# Altium schematic symbol library CarlLibrary.SchLib: 52 symbols
Pins are listed as number, name and electrical type; pins without a type are passive.

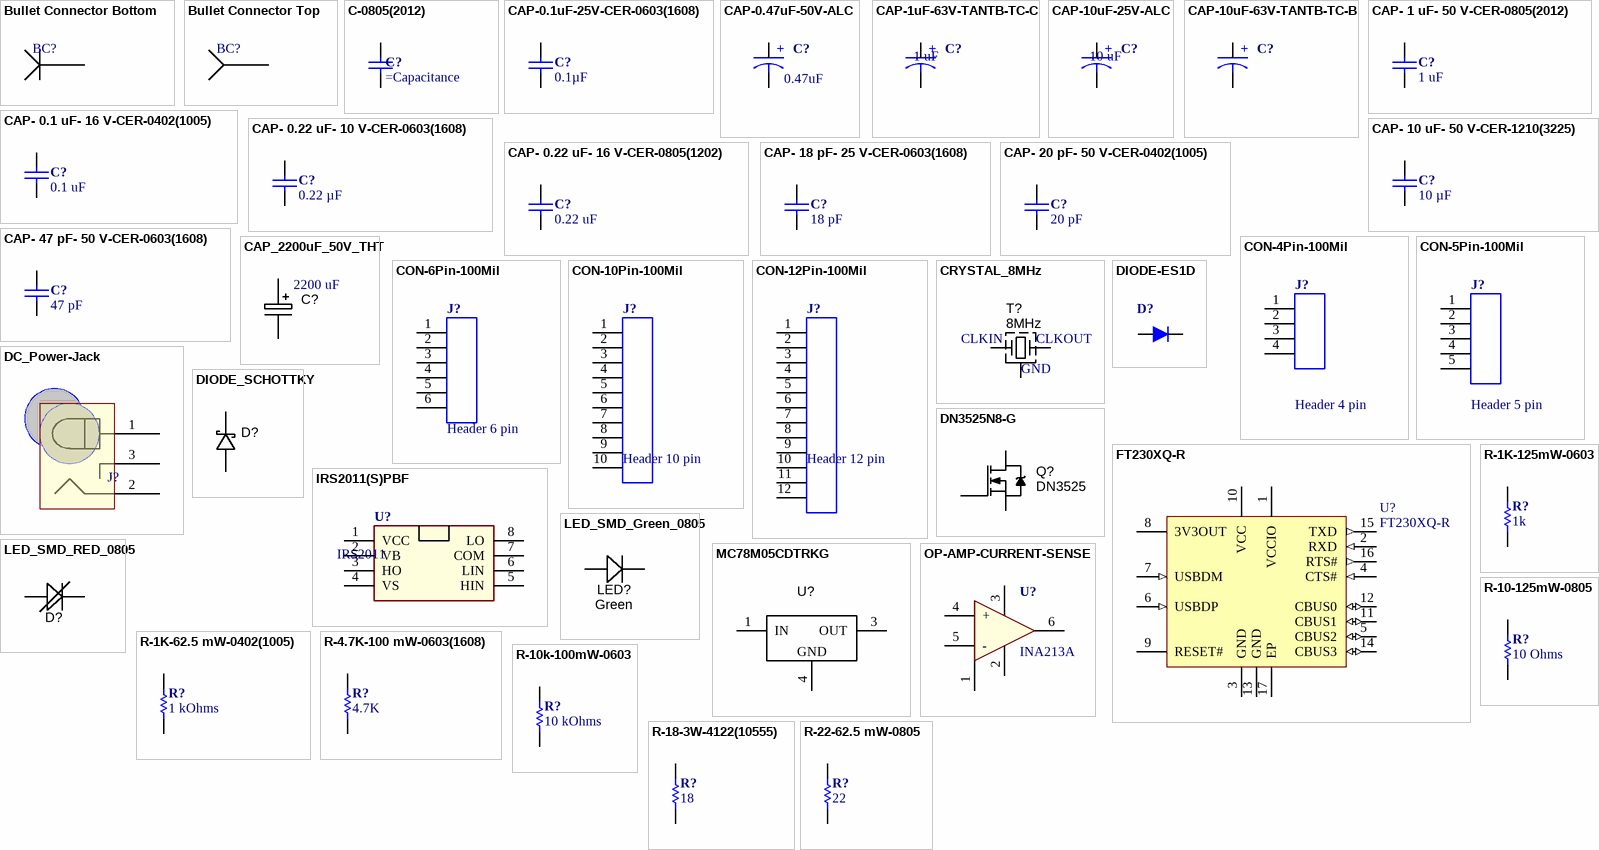
[diagram p0: symbols Bullet Connector Bottom to R-22-62.5 mW-0805]

## Bullet Connector Bottom
designator BC?
SMD BULLET CONNECTOR
footprint BULLET_CONNECTOR_BOTTOM
pins: 1

## Bullet Connector Top
designator BC?
SMD BULLET CONNECTOR
footprint BULLET_CONNECTOR_TOP (TOP_SIDE_BULLET)
pins: 1

## C-0805(2012)
designator C?
___ OHM ___ mW 0805(2012) SMD
footprint CAP-0805(2012)-R (Capacitor 0805(2012) Reflow)
pins: 1, 2

## CAP-0.1uF-25V-CER-0603(1608)
designator C?, comment 0.1µF
CAP CER 0.1UF 25V 20% X7R 0603; MANUFACTURER: YAGEO; PART #: CC0603JRX7R8BB104; Tolerance: ±10%; RoHS: RoHS Compliant; Category: Capacitors; Capacitance: 0.1µF; Voltage - Rated: 25V; Temperature Coefficient: X7R; Mounting Type: Surface Mount, MLCC; Applications: General Purpose; Package / Case: 0603 (1608 Metric); Size / Dimension: 0.063" L x 0.031" W (1.60mm x 0.80mm); Thickness (Max): 0.035" (0.90mm)
footprint CAP-0603(1608)-R (Capacitor 0603(1608) Reflow)
pins: 1, 2

## CAP-0.47uF-50V-ALC
designator C?, comment value 0.47uF  (hidden comment: UMT1HR47MDD)
CAP, 0.47uF, 50V, ALC, 20%, 3.8mA; ARMA_PN: UMT1HR47MDD
pins: 1 POSITIVE, 2 NEGATIVE
text: +

## CAP-1uF-63V-TANTB-TC-C
designator C?, comment 1 uF
CAP, 1uF, 63V, TANT-B; Manufacturer: AVX; Manufacturer Part Number: TCJC105M063R0300; Mfr Case Code: C Case; Tolerance: 20 %; Type: Tantalum Solid Electrolytic Chip Capacitors  with Conductive Polymer Electrode; Voltage Rating: 63 VDC; ESR: 300 mOhms; Leakage Current: 3.6 uA; Dissipation Factor DF: 6; Supplier 1: Mouser; RoHS: RoHS Compliant; Category: Tantalum Capacitors - Polymer SMD; Stock 1: 984; Pricing 1: 1=1.71, 10=1.41, 100=0.826, 500=0.585, 1000=0.516, 2500=0.465, 10000=0.439, 25000=0.430 (USD); Capacitance: 1 uF; Diameter: -; Height: 2.8 mm; Length: 6 mm; Operating Temperature Range: - 55 C to + 125 C; Package / Case: 2312 (6032 metric); Packaging: Reel; Product: Tantalum Organic Polymer Standard Grade; Series: TCJ; Termination Style: SMD/SMT; Voltage Rating AC: -; Voltage Rating DC: 63 VDC; Width: 3.2 mm; Brand: AVX; Case Code - in: 2312; Case Code - mm: 6032; Maximum Operating Temperature: + 125 C; Minimum Operating Temperature: - 55 C; Product Category: Tantalum Solid Electrolytic Chip Capacitors w Conductive Polymer Electrode; Standard Pack Qty: 500; RoHS - Mouser: Y; Minimum Order Quantity: 1; Reeling: True; ComponentLink1URL: http://www.mouser.com/ds/2/40/tcj-776064.pdf; ComponentLink1Description: http://www.mouser.com/ds/2/40/tcj-776064.pdf; Supplier Part Number 1: 581-TCJC105M063R0300
footprint CAPMP6032X280N (Capacitor, polarized, Molded Body, EIA 535BAAC size C; 6.00mm L X 3.20mm W X 2.80mm H)
pins: 1 POSITIVE, 2 NEGATIVE
text: +

## CAP-10uF-25V-ALC
designator C?, comment 10 uF
CAP, 10uF, 25V, ALC, 20%; Manufacturer: Vishay / Sprague; Manufacturer Part Number: 515D106M025JA6AE3; Voltage Rating DC: 25 VDC; Life: 2000 Hour; Ripple Current: 33 mA; Supplier 1: Mouser; RoHS: RoHS Compliant; Category: Aluminum Electrolytic Capacitors - Leaded; Stock 1: 5463; Pricing 1: 1=0.140, 25=0.137, 100=0.131, 250=0.117, 500=0.102, 1000=0.090, 2000=0.072, 5000=0.071, 10000=0.065 (USD); Capacitance: 10 uF; Diameter: 5 mm; Length: 11 mm; Packaging: Bulk; Product: General Purpose Electrolytic Capacitors; Series: 515D; Termination Style: Radial; Tolerance: 20 %; Brand: Vishay / Sprague; Lead Spacing: 2 mm; Maximum Operating Temperature: + 85 C; Product Category: Radial Aluminum Electrolytic Capacitors - 85 Degree; Standard Pack Qty: 200; RoHS - Mouser: Y; Minimum Order Quantity: 1; Reeling: False; ComponentLink1URL: http://www.mouser.com/ds/2/427/515d-239733.pdf; ComponentLink1Description: http://www.mouser.com/ds/2/427/515d-239733.pdf; Supplier Part Number 1: 75-515D106M025JA6AE3
footprint CAPE5.0mm
pins: 1 POSITIVE, 2 NEGATIVE
text: +

## CAP-10uF-63V-TANTB-TC-B
designator C?
CAP TANT, 10uF, 16V, TANT-B; Manufacturer: Vishay / Sprague; Manufacturer Part Number: TP3B106K016C0800AS; Mfr Case Code: B Case; Tolerance: 10 %; ESR: 800 mOhms; Leakage Current: 1.6 uA; Dissipation Factor DF: 6; Ripple Current: 0.33 A; Supplier 1: Mouser; RoHS: RoHS Compliant; Category: Tantalum Capacitors - Solid SMD; Stock 1: 2285; Pricing 1: 1=0.420, 10=0.340, 50=0.268, 100=0.237, 500=0.220, 2000=0.193, 4000=0.180, 10000=0.167, 20000=0.156 (USD); Capacitance: 10 uF; Height: 2.1 mm; Length: 3.5 mm; Operating Temperature Range: - 55 C to + 125 C; Package / Case: 1411 (3528 metric); Packaging: Reel; Product: Tantalum Solid Surface Mounts; Series: TP3; Termination Style: SMD/SMT; Voltage Rating: 16 V; Width: 2.8 mm; Brand: Vishay / Sprague; Case Code - in: 1411; Case Code - mm: 3528; Product Category: Low ESR Solid Tantalum Chip Capacitors; Tradename: TANTAMOUNT; RoHS - Mouser: Y; Minimum Order Quantity: 1; Reeling: True; ComponentLink1URL: http://www.mouser.com/ds/2/427/tp3-240030.pdf; ComponentLink1Description: http://www.mouser.com/ds/2/427/tp3-240030.pdf; Supplier Part Number 1: 74-TP3B106K016C0800A
footprint CAPMP3528X210N (Molded body capacitor, Body 3.5x2.8mm, 1210, IPC Nominal settings)
pins: 1 POSITIVE, 2 NEGATIVE
text: +

## CAP- 0.1 uF- 16 V-CER-0402(1005)
designator C?, comment 0.1 uF
CAP CER 0.1 UF 16V 5% X7R 0402; Manufacturer: Yageo; Manufacturer Part Number: CC0402KRX7R7BB104; Tolerance: 10 %; Type: Multilayer Ceramic Chip Capacitor; Voltage Rating DC: 16 VDC; Supplier 1: Mouser; RoHS: RoHS Compliant By Exemption; Category: Multilayer Ceramic Capacitors MLCC - SMD/SMT; Stock 1: 655262; Pricing 1: 1=0.100, 10=0.009, 100=0.004, 1000=0.003, 2500=0.002, 10000=0.002 (USD); Capacitance: 0.1 uF; Package / Case: 0402 (1005 metric); Packaging: Reel; Product: General Type MLCCs; Termination Style: SMD/SMT; Brand: Yageo; Case Code - in: 0402; Case Code - mm: 1005; Dielectric: X7R; Maximum Operating Temperature: + 125 C; Minimum Operating Temperature: - 55 C; Standard Pack Qty: 10000; RoHS - Mouser: E; Minimum Order Quantity: 1; Reeling: True; ComponentLink1URL: http://www.mouser.com/ds/2/447/UPY-GPHC_X7R_6.3V-to-50V_8-12304.pdf; ComponentLink1Description: http://www.mouser.com/ds/2/447/UPY-GPHC_X7R_6.3V-to-50V_8-12304.pdf; Supplier Part Number 1: 603-CC402KRX7R7BB104
footprint CAP-0402(1005)-R (Capacitor 0402 Reflow)
pins: 1, 2

## CAP- 0.22 uF- 10 V-CER-0603(1608)
designator C?, comment 0.22 µF
CAP CER 0.22 UF 10V 5% X7R 0603; MANUFACTURER: YAGEO; PART #:: CC0603KRX7R6BB224; Voltage - Rated: V; Tolerance: ±%; RoHS: RoHS Compliant; Category: Capacitors; Capacitance: 0.22 µF; Mounting Type: Surface Mount, MLCC; Applications: General Purpose; Package / Case: 0603 (1608 Metric); Size / Dimension: 0.063" L x 0.031" W (1.60mm x 0.80mm); Thickness (Max): 0.035" (0.90mm)
footprint CAP-0603(1608)-R (Capacitor 0603(1608) Reflow)
pins: 1, 2

## CAP- 0.22 uF- 16 V-CER-0805(1202)
designator C?, comment 0.22 uF
CAP CER 0.22 UF 16V 10% X7R 0805(2012); Manufacturer: Yageo; Manufacturer Part Number: CC0805KRX7R7BB224; Type: Multilayer Ceramic Chip Capacitor; Voltage Rating DC: 16 VDC; Capacitance - nF: 220 nF; Capacitance - pF: 220000 pF; Supplier 1: Mouser; RoHS: RoHS Compliant By Exemption; Category: Multilayer Ceramic Capacitors MLCC - SMD/SMT; Stock 1: 9302; Pricing 1: 1=0.100, 10=0.088, 100=0.039, 1000=0.032, 4000=0.023, 8000=0.022, 24000=0.021, 48000=0.019, 100000=0.016 (USD); Capacitance: 0.22 uF; Length: 2 mm; Package / Case: 0805 (2012 metric); Packaging: Reel; Product: General Type MLCCs; Termination Style: SMD/SMT; Tolerance: 10 %; Width: 1.25 mm; Brand: Yageo; Case Code - in: 0805; Case Code - mm: 2012; Dielectric: X7R; Maximum Operating Temperature: + 125 C; Minimum Operating Temperature: - 55 C; Standard Pack Qty: 4000; RoHS - Mouser: E; Minimum Order Quantity: 1; Reeling: True; ComponentLink1URL: http://www.mouser.com/ds/2/447/Yageo_486313-494411.pdf; ComponentLink1Description: http://www.mouser.com/ds/2/447/Yageo_486313-494411.pdf; Supplier Part Number 1: 603-CC805KRX7R7BB224
footprint CAP-0805(2012)-R (Capacitor 0805(2012) Reflow)
pins: 1, 2

## CAP- 1 uF- 50 V-CER-0805(2012)
designator C?, comment 1 uF
CAP CER 1 UF 50V 10% Y5V 0805; Manufacturer: Yageo; Manufacturer Part Number: CC0805KKX7R8BB105; Type: Multilayer Ceramic Chip Capacitor; Voltage Rating DC: 25 VDC; Dielectric: X7R; Supplier 1: Mouser; RoHS: RoHS Compliant By Exemption; Category: Multilayer Ceramic Capacitors MLCC - SMD/SMT; Stock 1: 45582; Pricing 1: 1=0.120, 10=0.062, 100=0.028, 1000=0.022, 3000=0.017, 9000=0.015, 24000=0.014, 45000=0.013, 99000=0.010 (USD); Capacitance: 1 uF; Height: 1.25 mm; Length: 2 mm; Package / Case: 0805 (2012 metric); Packaging: Reel; Product: General Type MLCCs; Series: CC; Termination Style: SMD/SMT; Tolerance: 10 %; Width: 1.25 mm; Brand: Yageo; Case Code - in: 0805; Case Code - mm: 2012; Maximum Operating Temperature: + 125 C; Minimum Operating Temperature: - 55 C; RoHS - Mouser: E; Minimum Order Quantity: 1; Reeling: True; ComponentLink1URL: http://www.mouser.com/ds/2/447/UPY-GP_NP0_16V-to-50V_8-3714.pdf; ComponentLink1Description: http://www.mouser.com/ds/2/447/UPY-GP_NP0_16V-to-50V_8-3714.pdf; Supplier Part Number 1: 603-CC805KKX7R8BB105
footprint CAP-0805(2012)-R (Capacitor 0805(2012) Reflow)
pins: 1, 2

## CAP- 10 uF- 50 V-CER-1210(3225)
designator C?, comment 10 µF
CAP CER 10 UF 50V 10% X5R 1210; Voltage - Rated: V; Tolerance: ±%; RoHS: RoHS Compliant; Category: Capacitors; Capacitance: 10 µF; Mounting Type: Surface Mount, MLCC; Applications: General Purpose; Package / Case: 0603 (1608 Metric); Size / Dimension: 0.063" L x 0.031" W (1.60mm x 0.80mm); Thickness (Max): 0.035" (0.90mm)
footprint CAP-1210(3225)-R (Capacitor 1210(3225) Reflow)
pins: 1, 2

## CAP- 18 pF- 25 V-CER-0603(1608)
designator C?, comment 18 pF
CAP CER 18 pF 10V 5% C0G 0603; Manufacturer: Yageo; Manufacturer Part Number: CC0603FRNPO9BN180; Tolerance: 1 %; Type: Multilayer Ceramic Chip Capacitor; Voltage Rating DC: 50 VDC; Dielectric: C0G (NP0); Supplier 1: Mouser; RoHS: RoHS Compliant By Exemption; Category: Multilayer Ceramic Capacitors MLCC - SMD/SMT; Stock 1: 2511; Pricing 1: 1=0.100, 10=0.039, 100=0.027, 1000=0.019, 4000=0.018, 8000=0.017, 24000=0.016, 48000=0.013 (USD); Capacitance: 18 pF; Length: 1.6 mm; Package / Case: 0603 (1608 metric); Packaging: Reel; Product: General Type MLCCs; Termination Style: SMD/SMT; Width: 0.8 mm; Brand: Yageo; Case Code - in: 0603; Case Code - mm: 1608; Maximum Operating Temperature: + 125 C; Minimum Operating Temperature: - 55 C; RoHS - Mouser: E; Minimum Order Quantity: 1; Reeling: True; ComponentLink1URL: http://www.mouser.com/ds/2/447/UPY-GP_NP0_16V-to-50V_8-3714.pdf; ComponentLink1Description: http://www.mouser.com/ds/2/447/UPY-GP_NP0_16V-to-50V_8-3714.pdf; Supplier Part Number 1: 603-CC603FRNPO9BN180
footprint CAP-0603(1608)-R (Capacitor 0603(1608) Reflow)
pins: 1, 2

## CAP- 20 pF- 50 V-CER-0402(1005)
designator C?, comment 20 pF
CAP CER 20 pF 50V 5% C0G 0402; Manufacturer: Yageo; Manufacturer Part Number: CC0402JRNPO9BN200; Type: Multilayer Ceramic Chip Capacitor; Voltage Rating DC: 50 VDC; Dielectric: C0G (NP0); Supplier 1: Mouser; RoHS: RoHS Compliant By Exemption; Category: Multilayer Ceramic Capacitors MLCC - SMD/SMT; Stock 1: 75922; Pricing 1: 1=0.100, 10=0.010, 100=0.005, 1000=0.004, 2500=0.003, 10000=0.002 (USD); Capacitance: 20 pF; Length: 1 mm; Package / Case: 0402 (1005 metric); Packaging: Reel; Product: General Type MLCCs; Termination Style: SMD/SMT; Tolerance: 5 %; Width: 0.5 mm; Brand: Yageo; Case Code - in: 0402; Case Code - mm: 1005; Maximum Operating Temperature: + 125 C; Minimum Operating Temperature: - 55 C; Standard Pack Qty: 10000; RoHS - Mouser: E; Minimum Order Quantity: 1; Reeling: True; ComponentLink1URL: http://www.mouser.com/ds/2/447/UPY-NP0X7R_MV_100-to-630V_15-594030.pdf; ComponentLink1Description: http://www.mouser.com/ds/2/447/UPY-NP0X7R_MV_100-to-630V_15-594030.pdf; Supplier Part Number 1: 603-CC402JRNPO9BN200
footprint CAP-0402(1005)-R (Capacitor 0402 Reflow)
pins: 1, 2

## CAP- 47 pF- 50 V-CER-0603(1608)
designator C?, comment 47 pF
CAP CER 47 pF 50V 5% C0G 0603; Manufacturer: Yageo; Manufacturer Part Number: CC0603JRNPO9BN470; Type: Multilayer Ceramic Chip Capacitor; Voltage Rating DC: 50 VDC; Dielectric: C0G (NP0); Supplier 1: Mouser; RoHS: RoHS Compliant; Category: Multilayer Ceramic Capacitors MLCC - SMD/SMT; Stock 1: 0; Pricing 1: 1=0.100, 10=0.021, 100=0.009, 1000=0.007, 4000=0.005, 48000=0.004, 100000=0.003 (USD); Capacitance: 47 pF; Length: 1.6 mm; Package / Case: 0603 (1608 metric); Packaging: Reel; Product: General Type MLCCs; Termination Style: SMD/SMT; Tolerance: 5 %; Width: 0.8 mm; Brand: Yageo; Case Code - in: 0603; Case Code - mm: 1608; Maximum Operating Temperature: + 125 C; Minimum Operating Temperature: - 55 C; Standard Pack Qty: 4000; RoHS - Mouser: E; Minimum Order Quantity: 1; Reeling: True; ComponentLink1URL: http://www.mouser.com/ds/2/447/UPY-GP_NP0_16V-to-50V_8-3714.pdf; ComponentLink1Description: http://www.mouser.com/ds/2/447/UPY-GP_NP0_16V-to-50V_8-3714.pdf; Supplier Part Number 1: 603-CC603JRNPO9BN470
footprint CAP-0603(1608)-R (Capacitor 0603(1608) Reflow)
pins: 1, 2

## CAP_2200uF_50V_THT
designator C?
Capacitor THT Alum Elec 2200uF 20% 50V; Manufacturer 1: NICHICON; Manufacturer Part Number 1: UVK1H222MHD; Ratings: 50V; 105°C; Material: Al Electrolytic; Package / Case: Radial; Tolerance: ±20%
footprint 2200uF_Rad_18x25mm (10mm Pitch Radial Capacitor)
pins: 1, 2
text: 2200 uF

## CON-4Pin-100Mil
designator J?, comment Header 4 pin
Header, 4 pin, .1 pitch; Manufacturer: Molex; Manufacturer Part Number: 90136-1104; Current Rating: 3 A; Mounting Angle: Vertical; Number of Positions: 4 Position; Voltage Rating: 350 VAC/DC; Pitch: 2.54 mm; Qualification: Commercial; Supplier 1: Mouser; RoHS: RoHS Compliant; Category: Headers & Wire Housings; Stock 1: 2253; Pricing 1: 1=1.17, 10=0.906, 100=0.717, 500=0.646, 1000=0.574, 2000=0.502 (USD); Accessory Type: -; Contact Plating: Tin; Contact Type: -; Housing Material: Polyester; Number of Rows: 1 Row; Packaging: Tray; Product: Headers; Series: 90136; Termination Style: Through Hole; Type: Shrouded; Brand: Molex; Contact Material: Brass; Mounting Style: Straight Pin; Row Spacing: -; Contact Gender: Pin (Male); Product Category: C-Grid Connectors; Standard Pack Qty: 1920; Tradename: C-Grid; RoHS - Mouser: Y; Minimum Order Quantity: 1; Reeling: False; ComponentLink1URL: http://www.mouser.com/ds/2/276/0901361104_PCB_HEADERS-176953.pdf; ComponentLink1Description: http://www.mouser.com/ds/2/276/0901361104_PCB_HEADERS-176953.pdf; Supplier Part Number 1: 538-90136-1104
footprint HEADER-4-100mil (100 mil spacing)
pins: 1, 2, 3, 4

## CON-5Pin-100Mil
designator J?, comment Header 5 pin
Header, 5 pin, .1 pitch; Manufacturer: Molex; Manufacturer Part Number: 90136-1105; Current Rating: 3 A; Mounting Angle: Vertical; Number of Positions: 5 Position; Voltage Rating: 350 VAC/DC; Pitch: 2.54 mm; Qualification: Commercial; Supplier 1: Mouser; RoHS: RoHS Compliant; Category: Headers & Wire Housings; Stock 1: 2202; Pricing 1: 1=1.17, 10=0.934, 100=0.749, 500=0.675, 1000=0.600, 2000=0.544, 5000=0.525, 10000=0.461 (USD); Accessory Type: -; Contact Plating: Tin; Contact Type: -; Housing Material: Polyester; Number of Rows: 1 Row; Packaging: Tray; Product: Headers; Series: 90136; Termination Style: Through Hole; Type: Shrouded; Brand: Molex; Contact Material: Brass; Mounting Style: Through Hole; Row Spacing: -; Contact Gender: Pin (Male); Product Category: C-Grid Connectors; Standard Pack Qty: 1600; Tradename: C-Grid; RoHS - Mouser: Y; Minimum Order Quantity: 1; Reeling: False; ComponentLink1URL: http://www.mouser.com/ds/2/276/0901361105_PCB_HEADERS-151780.pdf; ComponentLink1Description: http://www.mouser.com/ds/2/276/0901361105_PCB_HEADERS-151780.pdf; Supplier Part Number 1: 538-90136-1105
footprint HEADER-5-100mil (100 mil spacing)
pins: 1, 2, 3, 4, 5

## CON-6Pin-100Mil
designator J?, comment Header 6 pin
Header, 6 pin, .1 pitch; Manufacturer: TE Connectivity / AMP; Manufacturer Part Number: 4-103327-6; Current Rating: 3 A; Mounting Angle: Vertical; Number of Positions: 6 Position; Pitch: 2.54 mm; Insulation Resistance: 5000 MOhms; Mating Post Length: 5.84 mm; Supplier 1: Mouser; Category: Headers & Wire Housings; Stock 1: 9402; Pricing 1: 1=0.230, 25=0.226, 50=0.212, 100=0.198 (USD); Contact Plating: Tin; Housing Material: Thermoplastic; Number of Rows: 1 Row; Operating Temperature Range: - 65 C to + 105 C; Product: Headers; Series: AMPMODU MOD II; Termination Style: Through Hole; Type: Breakaway; Brand: TE Connectivity / AMP; Contact Material: Phosphor Bronze; Flammability Rating: UL 94 V-0; Mounting Style: -; Row Spacing: 2.54 mm; Contact Gender: Pin (Male); Standard Pack Qty: 240; Termination Post Length: 3.05 mm; Tradename: AMPMODU; Minimum Order Quantity: 1; Reeling: False; ComponentLink1URL: http://www.mouser.com/ds/2/418/NG_CD_103327_T_baseFilename-749374.pdf; ComponentLink1Description: http://www.mouser.com/ds/2/418/NG_CD_103327_T_baseFilename-749374.pdf; Supplier Part Number 1: 571-4-103327-6
footprint HEADER-6-100mil (100 mil spacing)
pins: 1, 2, 3, 4, 5, 6

## CON-10Pin-100Mil
designator J?, comment Header 10 pin
Header, 10pin, .1 pitch; Manufacturer: Molex; Manufacturer Part Number: 90136-1110; Current Rating: 3 A; Mounting Angle: Vertical; Number of Positions: 10 Position; Voltage Rating: 350 VAC/DC; Pitch: 2.54 mm; Latching Type: Latched; Supplier 1: Mouser; RoHS: RoHS Compliant; Category: Headers & Wire Housings; Stock 1: 29; Pricing 1: 1=1.23, 10=1.12, 100=0.916, 500=0.802, 1000=0.687, 2500=0.641, 5000=0.609 (USD); Accessory Type: -; Contact Plating: Tin; Contact Type: -; Housing Material: Polyester; Number of Rows: 1 Row; Packaging: Tray; Product: Headers; Series: 90136; Termination Style: Through Hole; Type: Shrouded; Brand: Molex; Contact Material: Brass; Mounting Style: Straight Pin; Row Spacing: -; Contact Gender: Pin (Male); Product Category: C-Grid Connectors; Standard Pack Qty: 880; Tradename: C-Grid; RoHS - Mouser: Y; Minimum Order Quantity: 1; Reeling: False; ComponentLink1URL: http://www.mouser.com/ds/2/276/0901361110_PCB_HEADERS-176811.pdf; ComponentLink1Description: http://www.mouser.com/ds/2/276/0901361110_PCB_HEADERS-176811.pdf; Supplier Part Number 1: 538-90136-1110
footprint HEADER-10-100MIL (100 Mil Pitch)
pins: 1, 2, 3, 4, 5, 6, 7, 8, 9, 10

## CON-12Pin-100Mil
designator J?, comment Header 12 pin
Header, 12pin, .1 pitch
footprint HEADER-12-100MIL (100 Mil Pitch)
pins: 1, 2, 3, 4, 5, 6, 7, 8, 9, 10, 11, 12

## CRYSTAL_8MHz
designator T?, comment 8MHz
Oscillator Crystal 8MHz 10ppm; Manufacturer: ABRACON; Manufacturer Part Number: ABMM2-8.000MHZ-E2-T; Frequency Stability: 20 PPM; Load Capacitance: 18 pF; Type: Ceramic Low Profile Quartz Crystal; ESR: 72 Ohms; Supplier 1: Mouser; RoHS: RoHS Compliant; Category: Crystals; Stock 1: 13032; Pricing 1: 1=0.930, 10=0.823, 50=0.720, 100=0.650, 200=0.630, 500=0.520, 1000=0.470, 2000=0.460, 5000=0.442 (USD); Frequency: 8 MHz; Height: 1.2 mm; Length: 6 mm; Operating Temperature Range: - 20 C to + 70 C; Package / Case: 6 mm x 3.6 mm; Packaging: Reel; Series: ABMM2; Termination Style: SMD/SMT; Tolerance: 20 PPM; Width: 3.6 mm; Brand: ABRACON; Mounting Style: SMD/SMT; Product Category: SMD Crystals; Standard Pack Qty: 1000; RoHS - Mouser: Y; Minimum Order Quantity: 1; Reeling: True; ComponentLink1URL: http://www.mouser.com/ds/2/3/ABMM2-40161.pdf; ComponentLink1Description: http://www.mouser.com/ds/2/3/ABMM2-40161.pdf; Supplier Part Number 1: 815-ABMM2-8-E2T
footprint CRYSTAL-8MHZ (ABRACON ABMM2-8.000MHZ-E2-T)
pins: 1 CLKIN, 2 GND, 3 X
text: CLKOUT

## DC_Power-Jack
designator J?  (value not drawn)
Manufacturer: CUI; Manufacturer Part Number: PJ-002B; Connector Type: DC Power Jack; Current Rating: 2.5 A; Inside Contact Diameter: 2.5 mm; Mounting Angle: Right; Outside Contact Diameter: 6.5 mm; Voltage Rating: 16 V; Insulation Resistance: 100 MOhms; Product Status: New at Mouser; Supplier 1: Mouser; RoHS: RoHS Compliant; Category: DC Power Connectors; Stock 1: 6978; Pricing 1: 1=0.930, 10=0.651, 100=0.437, 500=0.353, 1000=0.316, 2500=0.251, 5000=0.247, 10000=0.242, 25000=0.237 (USD); Contact Plating: Nickel; Housing Material: Polybutylene Terephthalate (PBT); Operating Temperature Range: - 25 C to + 85 C; Product: Jacks; Termination Style: Through Hole; Brand: CUI; Contact Material: Copper; Flammability Rating: UL 94 V-0; Mounting Style: Through Hole; Contact Gender: Male; RoHS - Mouser: Y; Minimum Order Quantity: 1; Reeling: False; ComponentLink1URL: http://www.mouser.com/ds/2/670/pj-002b-515833.pdf; ComponentLink1Description: http://www.mouser.com/ds/2/670/pj-002b-515833.pdf; Supplier Part Number 1: 490-PJ-002B
footprint Jack_M (Jack_2.5A_16V_Through_Hole)
pins: 1 Tip, 2 Sleeve, 3 Insertion Detection

## DIODE-ES1D
designator D?
DIODE, ES1D Fairchild; Manufacturer: Fairchild Semiconductor; Configuration: Single; Max Surge Current: 30 A; Recovery Time: 15 ns; If - Forward Current: 1 A; Ir - Reverse Current: 5 uA; Pd - Power Dissipation: 1.47 W; Vf - Forward Voltage: 920 mV; Vr - Reverse Voltage: 200 V; Supplier 1: Mouser; Manufacturer Part Number: ES1D; RoHS: RoHS Compliant By Exemption; Category: Rectifiers; Stock 1: 51841; Pricing 1: 1=0.350, 10=0.227, 100=0.097, 1000=0.075, 2500=0.057, 7500=0.050, 22500=0.047, 45000=0.042, 97500=0.040 (USD); Package / Case: SMA; Packaging: Reel; Product: Ultra Fast Recovery Rectifiers; Series: ES1D; Brand: Fairchild Semiconductor; Mounting Style: SMD/SMT; Maximum Operating Temperature: + 150 C; Minimum Operating Temperature: - 50 C; Standard Pack Qty: 7500; RoHS - Mouser: E; Minimum Order Quantity: 1; Reeling: True; ComponentLink1URL: http://www.mouser.com/ds/2/149/ES1D-888870.pdf; ComponentLink1Description: http://www.mouser.com/ds/2/149/ES1D-888870.pdf; Supplier Part Number 1: 512-ES1D
footprint DO-214AC (JEDEC DO214 variation AC. SMA)
pins: A ANODE, K CATHODE

## DIODE_SCHOTTKY
designator D?, comment MBR120VLSFT3G  (value not drawn)
Diode Schottky SMD 20V 1A SMD; Manufacturer: ON Semiconductor; Configuration: Single; Ifsm - Forward Surge Current: 45 A; Ir - Reverse Current: 600 uA; Vf - Forward Voltage: 0.34 V; Supplier 1: Mouser; Manufacturer Part Number: MBR120VLSFT3G; RoHS: RoHS Compliant; Category: Schottky Diodes & Rectifiers; Stock 1: 22244; Pricing 1: 1=0.360, 10=0.279, 100=0.151, 1000=0.114, 2500=0.098, 10000=0.091, 20000=0.084, 50000=0.081, 100000=0.076 (USD); Package / Case: SOD-123FL; Packaging: Reel; Product: Schottky Diodes; Series: MBR120VLSF; Technology: Si; Brand: ON Semiconductor; Mounting Style: SMD/SMT; If - Forward Current: 1 A; Maximum Operating Temperature: + 125 C; Minimum Operating Temperature: - 65 C; Product Category: Diodes- Schottky; Standard Pack Qty: 10000; Vrrm - Repetitive Reverse Voltage: 20 V; RoHS - Mouser: Y; Minimum Order Quantity: 1; Reeling: True; ComponentLink1URL: http://www.mouser.com/ds/2/308/MBR120VLSFT1-D-107081.pdf; ComponentLink1Description: http://www.mouser.com/ds/2/308/MBR120VLSFT1-D-107081.pdf; Supplier Part Number 1: 863-MBR120VLSFT3G
footprint SOD-123FL (SOD-123FL; 2 Leads; Body 2.7 x 1.6 mm, (LxW))
pins: A, K

## DN3525N8-G
designator Q?, comment DN3525
MOSFET N-Channel DEPLETION SMD; Manufacturer: Microchip Technology; Manufacturer Part Number: DN3525N8-G; Configuration: Single; Transistor Type: 1 N-Channel; Number of Channels: 1 Channel; Fall Time: 25 ns; Id - Continuous Drain Current: 360 mA; Pd - Power Dissipation: 1.6 W; Rds On - Drain-Source Resistance: 6 Ohms; Typical Turn-On Delay Time: 20 ns; Vds - Drain-Source Breakdown Voltage: 250 V; Vgs - Gate-Source Voltage: 20 V; Supplier 1: Mouser; RoHS: RoHS Compliant; Category: MOSFET; Stock 1: 34759; Pricing 1: 1=0.720, 10=0.650, 25=0.540, 100=0.490, 2000=0.490 (USD); Package / Case: SOT-89-3; Packaging: Reel; Brand: Microchip Technology; Mounting Style: SMD/SMT; Transistor Polarity: N-Channel; Channel Mode: Depletion; Maximum Operating Temperature: + 150 C; Minimum Operating Temperature: - 55 C; Product Category: MOSFETs - Depletion Mode N-Channel; Rise Time: 25 ns; Standard Pack Qty: 2000; Typical Turn-Off Delay Time: 25 ns; RoHS - Mouser: Y; Minimum Order Quantity: 1; Reeling: True; Supplier Part Number 1: 689-DN3525N8-G
footprint SOT89-3 (JEDEC TO-243 option AA / SOT89)
pins: 1 G, 2 D, 3 S

## FT230XQ-R
designator U?
USB to Basic UART Interface Chip, UHCI/OHCI/EHCI Compatible, USB 2.0 Compatible, -40 to +85 degC, 16-Pin QFN, Pb-Free, Tape and Reel; Manufacturer: FTDI; Data Rate: 480 Mb/s, 12 Mb/s; Speed: High-Speed; Interface Type: UART, USB; Operating Supply Current: 6.5 mA to 8.3 mA; Operating Supply Voltage: 2.97 V to 5.5 V; PackagingOptionsScrubbed: FT230XQT; Supplier 1: Mouser; Manufacturer Part Number: FT230XQ-R; RoHS: RoHS Compliant; Category: USB Interface IC; Stock 1: 69254; Pricing 1: 1=2.04, 25=1.97, 100=1.90, 250=1.71, 500=1.54, 1000=1.46, 2500=1.38, 5000=1.38 (USD); Package / Case: QFN-16; Packaging: Reel; Product: USB Bridge Controllers; Series: FT230; Type: Bridge, USB to UART; Brand: FTDI; Mounting Style: SMD/SMT; Maximum Operating Temperature: + 85 C; Standard: USB 2.0; Standard Pack Qty: 5000; Tradename: X-Chip; RoHS - Mouser: Y; Minimum Order Quantity: 1; Reeling: True; ComponentLink1URL: http://www.mouser.com/ds/2/163/DS_FT230X-5395.pdf; ComponentLink1Description: http://www.mouser.com/ds/2/163/DS_FT230X-5395.pdf; Supplier Part Number 1: 895-FT230XQ-R
footprint QFN-16
pins: 1 VCCIO (power) "1V8 -3V3 supply for the IO cells.", 2 RXD (in) "Receiving Asynchronous Data Input.", 3 GND (power) "0V Ground input.", 4 CTS# (in) "Clear To Send Control Input / Handshake Signal.", 5 CBUS2 (io) "Configurable CBUS I/O Pin. Function of this pin is configured in the device MTP memory. The default configuration is TXLED#.", 6 USBDP (in) "USB Data Signal Plus.", 7 USBDM (in) "USB Data Signal Minus.", 8 3V3OUT (power) "3V3 output at 50mA. May be used to power VCCIO. When VCC is 3V3; pin 8 is an input pin and should be connected to pin 10.", 9 RESET# "Reset input (active low).", 10 VCC (power) "5 V (or 3V3) supply to IC.", 11 CBUS1 (io) "Configurable CBUS I/O Pin. Function of this pin is configured in the device MTP memory. The default configuration is RXLED#.", 12 CBUS0 (io) "Configurable CBUS I/O Pin. Function of this pin is configured in the device MTP memory. The default configuration is TXDEN.", 13 GND (power) "0V Ground input.", 14 CBUS3 (io) "Configurable CBUS I/O Pin. Function of this pin is configured in the device MTP memory. The default configuration is SLEEP#.", 15 TXD (out) "Transmit Asynchronous Data Output.", 16 RTS# (out) "Request to Send Control Output / Handshake Signal.", 17 EP (power) "Exposed Pad. Connect to GND."

## IRS2011(S)PBF
designator U?, comment IRS2011
IC, HS/LS INDEPENDENT DRIVER; Manufacturer: International Rectifier; Manufacturer Part Number: IRS2011SPBF; Configuration: Non-Inverting; Number of Outputs: 2; Output Current: 1 A; Fall Time: 35 ns; Maximum Turn-Off Delay Time: 60 ns; Number of Drivers: 2 Driver; Operating Supply Current: 300 uA; Pd - Power Dissipation: 625 mW; Rise Time: 40 ns; Supply Voltage - Max: 20 V; Supply Voltage - Min: 10 V; Supplier 1: Mouser; RoHS: RoHS Compliant; Category: Gate Drivers; Stock 1: 1172; Pricing 1: 1=2.08, 10=1.77, 100=1.42, 500=1.24, 1000=1.02, 2500=0.955, 5000=0.920, 10000=0.850 (USD); Features: Independent; Package / Case: SOIC-8; Packaging: Tube; Product: Half-Bridge Drivers; Type: High and Low Side Driver; Brand: International Rectifier; Mounting Style: SMD/SMT; Maximum Operating Temperature: + 125 C; Maximum Turn-On Delay Time: 60 ns; Minimum Operating Temperature: - 40 C; Standard Pack Qty: 95; RoHS - Mouser: Y; Minimum Order Quantity: 1; Reeling: False; ComponentLink1URL: http://www.mouser.com/ds/2/200/irs2011pbf-90501.pdf; ComponentLink1Description: http://www.mouser.com/ds/2/200/irs2011pbf-90501.pdf; Supplier Part Number 1: 942-IRS2011SPBF
footprint SOIC-8 (8 LEAD SOIC)
pins: 1 VCC, 2 VB, 3 HO, 4 VS (power), 5 HIN (power), 6 LIN (power), 7 COM, 8 LO

## LED_SMD_Green_0805
designator LED?, comment Green
LED, 0805 SMD, Green; Manufacturer 1: Ligitek; Manufacturer Part Number 1: LG170G-CT; Material: GaP; Ratings: 10 mcd; 573 nm; Package / Case: 0805
footprint LED-0805-K
pins: A, K

## LED_SMD_RED_0805
designator D?, comment Red  (value not drawn)
LED, 0805 SMD, Red; Manufacturer: Kingbright; Manufacturer Part Number: APTD3216SURCK; Lens Color/Style: Water Clear; LED Size: 3.2 mm x 1.6 mm; Luminous Intensity: 1000 mcd; Viewing Angle: 50 deg; If - Forward Current: 20 mA; Vf - Forward Voltage: 1.95 V; Wavelength/Color Temperature: 630 nm; Supplier 1: Mouser; RoHS: RoHS Compliant; Category: Standard LEDs - SMD; Stock 1: 52291; Pricing 1: 1=0.270, 10=0.169, 100=0.125, 1000=0.103, 2000=0.092, 10000=0.084, 24000=0.075, 50000=0.071, 100000=0.068 (USD); Illumination Color: Red; Package / Case: 1206; Packaging: Reel; Brand: Kingbright; Mounting Style: SMD/SMT; Maximum Operating Temperature: + 85 C; Minimum Operating Temperature: - 40 C; Product Category: LED SMD Super Bright; Standard Pack Qty: 2000; RoHS - Mouser: Y; Minimum Order Quantity: 1; Reeling: True; ComponentLink1URL: http://www.mouser.com/ds/2/216/APTD3216SURCK-65552.pdf; ComponentLink1Description: http://www.mouser.com/ds/2/216/APTD3216SURCK-65552.pdf; Supplier Part Number 1: 604-APTD-3216SURCK
footprint LED-1206
pins: A, K

## MC78M05CDTRKG
designator U?, comment FIXED 5V  (value not drawn)
Voltage Regulator IC, DPAK SMD, MC78M05CDTRKG; Manufacturer: ON Semiconductor; Input Voltage MAX: 35 V; Number of Outputs: 1; Output Current: 500 mA; PSRR / Ripple Rejection - Typ: 80 dB; Input Voltage MIN: 7 V; Line Regulation: 50 mV; Load Regulation: 100 mV; Polarity: Positive; Supplier 1: Mouser; Manufacturer Part Number: MC78M05CDTRKG; RoHS: RoHS Compliant; Category: Linear Voltage Regulators; Stock 1: 26245; Pricing 1: 1=0.470, 10=0.353, 100=0.222, 1000=0.166, 2500=0.142, 10000=0.132, 25000=0.125, 50000=0.119, 100000=0.116 (USD); Output Type: Fixed; Output Voltage: 5 V; Package / Case: TO-252-3 (DPAK); Packaging: Reel; Series: MC78M05; Brand: ON Semiconductor; Mounting Style: SMD/SMT; Maximum Operating Temperature: + 125 C; Minimum Operating Temperature: 0 C; Product Category: Linear Regulators- General Purpose; Standard Pack Qty: 2500; RoHS - Mouser: Y; Minimum Order Quantity: 1; Reeling: True; ComponentLink1URL: http://www.mouser.com/ds/2/308/MC78M00-D-88441.pdf; ComponentLink1Description: http://www.mouser.com/ds/2/308/MC78M00-D-88441.pdf; Supplier Part Number 1: 863-MC78M05CDTRKG
footprint TO-252 (D-PAK/TO-252-AA; 3 Leads (1 Cropped); Body 10.3 (inc. leads) x 6.7 mm (LxW max))
pins: 1 IN, 3 OUT (power), 4 GND (power)

## OP-AMP-CURRENT-SENSE
designator U?, comment INA213A
IC, OP AMP, CMOS; Value: INA213A
footprint SOT-6 (TI OP AMP SC70 PACKAGE)
pins: 1 REF (power), 2 GND (power), 3 VCC (power), 4 +, 5 -, 6 OUT

## R-1K-62.5 mW-0402(1005)
designator R?, comment 1 kOhms
RES 1K OHM 62.5 mW 0402(1005) SMD; Manufacturer: Yageo; Manufacturer Part Number: RC0402JR-071KL; Power Rating: 62.5 mW (1/16 W); Temperature Coefficient: 100 PPM / C; Tolerance: 5 %; Voltage Rating: 50 V; Supplier 1: Mouser; RoHS: RoHS Compliant; Category: Thick Film Resistors - SMD; Stock 1: 20226; Pricing 1: 1=0.100, 10=0.007, 100=0.002, 2500=0.001, 10000=0.001 (USD); Height: 0.35 mm; Length: 1 mm; Operating Temperature Range: - 55 C to + 155 C; Package / Case: 0402 (1005 metric); Packaging: Reel; Product: Thick Film Resistors General Purpose; Resistance: 1 kOhms; Series: RC; Termination Style: SMD/SMT; Type: General Purpose Chip Resistor Surface Mount; Width: 0.5 mm; Brand: Yageo; Case Code - in: 0402; Case Code - mm: 1005; Product Category: 0402 SMD Chip Resistors; Standard Pack Qty: 10000; RoHS - Mouser: Y; Minimum Order Quantity: 1; Reeling: True; ComponentLink1URL: http://www.mouser.com/ds/2/447/PYu-RC0402_51_RoHS_L_6_r-8721.pdf; ComponentLink1Description: http://www.mouser.com/ds/2/447/PYu-RC0402_51_RoHS_L_6_r-8721.pdf; Supplier Part Number 1: 603-RC0402JR-071KL
footprint R-0402(1005)-R (Resistor 0402(1005)-Reflow)
pins: 1, 2

## R-1K-125mW-0603
designator R?, comment 1k
RES 1K OHM 1/8W 0603 SMD; Manufacturer: YAGEO; Manufacturer Part Number: RC0805FR-0710RL; RoHS: RoHS Compliant; Category: Resistors; Resistance: 1k; Power (Watts): 1/8 W; Composition: Thick Film; Package / Case: 0603; Supplier Device Package: 0805; Size / Dimension: 0.085" L x 0.031" W (1.60mm x 0.80mm); Height: 0.022" (0.55mm); Number of Terminations: 2
footprint R-0603(1608)-R (Resistor 0603(1608) Reflow)
pins: 1, 2

## R-4.7K-100 mW-0603(1608)
designator R?, comment 4.7K
RES 4.7K OHM 100 mW 0603(1608) SMD; Manufacturer: Yageo; Manufacturer Part Number: RC0603FR-074K7L; Power (Watts): 100 mW; RoHS: RoHS Compliant; Category: Resistors; Resistance: 4.7K; Composition: MLCC; Package / Case: 0603 (1608 Metric); Supplier Device Package: 0603; Size / Dimension: 0.063" L x 0.031" W (1.60mm x 0.80mm); Height: 0.022" (0.55mm); Number of Terminations: 2
footprint R-0603(1608)-R (Resistor 0603(1608) Reflow)
pins: 1, 2

## R-10-125mW-0805
designator R?, comment 10 Ohms
RES 10 OHM 1/8W 0805 SMD; Manufacturer: Yageo; Manufacturer Part Number: RC0805FR-0710RL; Power Rating: 125 mW (1/8 W); Temperature Coefficient: 200 PPM / C; Tolerance: 1 %; Voltage Rating: 150 V; Supplier 1: Mouser; RoHS: RoHS Compliant; Category: Thick Film Resistors - SMD; Stock 1: 46426; Pricing 1: 1=0.100, 10=0.016, 100=0.006, 1000=0.004, 5000=0.003, 25000=0.002 (USD); Height: 0.5 mm; Length: 2 mm; Operating Temperature Range: - 55 C to + 155 C; Package / Case: 0805 (2012 metric); Packaging: Reel; Product: Thick Film Resistors General Purpose; Resistance: 10 Ohms; Series: RC; Termination Style: SMD/SMT; Type: General Purpose Chip Resistor Surface Mount; Width: 1.25 mm; Brand: Yageo; Case Code - in: 0805; Case Code - mm: 2012; Product Category: 0805 SMD Chip Resistors; Standard Pack Qty: 5000; RoHS - Mouser: Y; Minimum Order Quantity: 1; Reeling: True; ComponentLink1URL: http://www.mouser.com/ds/2/447/RC0805-257173.pdf; ComponentLink1Description: http://www.mouser.com/ds/2/447/RC0805-257173.pdf; Supplier Part Number 1: 603-RC0805FR-0710RL
footprint R-0805(2012)-R (Resistor 0805(2012) Reflow)
pins: 1, 2

## R-10k-100mW-0603
designator R?, comment 10 kOhms
RES 10k OHM 1/10W 0603 SMD; Manufacturer: Yageo; Manufacturer Part Number: RC0603FR-0710KL; Power Rating: 100 mW; Temperature Coefficient: 100 PPM / C; Tolerance: 1 %; Voltage Rating: 75 V; Supplier 1: Mouser; RoHS: RoHS Compliant; Category: Thick Film Resistors - SMD; Stock 1: 240719; Pricing 1: 1=0.100, 10=0.010, 100=0.003, 1000=0.002, 5000=0.002, 10000=0.001 (USD); Height: 0.45 mm; Length: 1.6 mm; Operating Temperature Range: - 55 C to + 155 C; Package / Case: 0603 (1608 metric); Packaging: Reel; Product: Thick Film Resistors General Purpose; Resistance: 10 kOhms; Series: RC; Termination Style: SMD/SMT; Type: General Purpose Chip Resistor Surface Mount; Width: 0.8 mm; Brand: Yageo; Case Code - in: 0603; Case Code - mm: 1608; Product Category: 0603 SMD Chip Resistors; Standard Pack Qty: 5000; RoHS - Mouser: Y; Minimum Order Quantity: 1; Reeling: True; ComponentLink1URL: http://www.mouser.com/ds/2/447/RC0603-272842.pdf; ComponentLink1Description: http://www.mouser.com/ds/2/447/RC0603-272842.pdf; Supplier Part Number 1: 603-RC0603FR-0710KL
footprint R-0603(1608)-R (Resistor 0603(1608) Reflow)
pins: 1, 2

## R-18-3W-4122(10555)
designator R?, comment 18
RES 18OHM 3W 4122(10555) SMD; Manufacturer: TE Connectivity; Manufacturer Part Number: SMW318RJT; RoHS: RoHS Compliant; Category: Resistors; Resistance: 18; Power (Watts): 3 W; Composition: Thick Film; Package / Case: 4122 (10555 Metric); Supplier Device Package: 0603; Size / Dimension: 0.063" L x 0.031" W (1.60mm x 0.80mm); Height: 0.022" (0.55mm); Number of Terminations: 2
footprint 4122(10555)
pins: 0, 1

## R-22-62.5 mW-0805
designator R?, comment 22
RES 22 OHM 62.5 mW  SMD; Manufacturer: Yageo; Manufacturer Part Number: RC0402FR-0775RL; Power (Watts): 62.5 mW; RoHS: RoHS Compliant; Category: Resistors; Resistance: 22; Composition: MLCC; Package / Case: 0402 (1005 Metric); Supplier Device Package: 0603; Size / Dimension: 0.063" L x 0.031" W (1.60mm x 0.80mm); Height: 0.022" (0.55mm); Number of Terminations: 2
footprint R-0402(1005)-R (Resistor 0402(1005)-Reflow)
pins: 1, 2

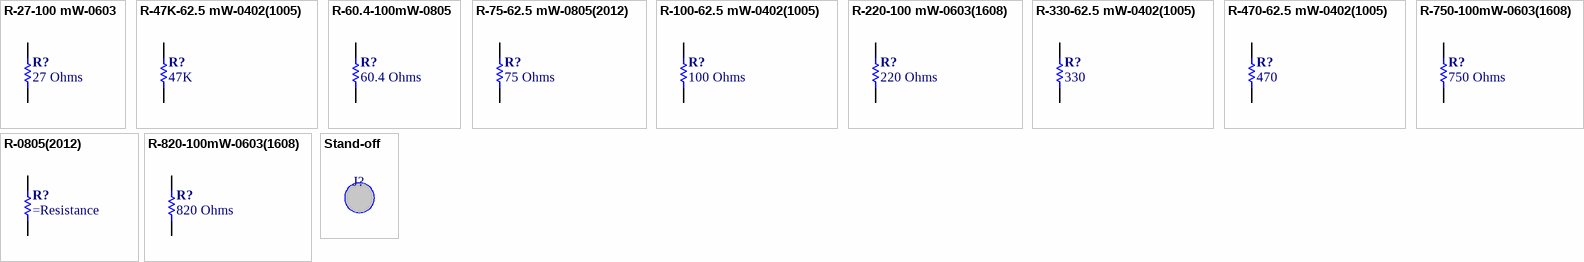
[diagram p1: symbols R-27-100 mW-0603 to Stand-off]

## R-27-100 mW-0603
designator R?, comment 27 Ohms
RES 27 OHM 100 mW  SMD; Manufacturer: Yageo; Manufacturer Part Number: RC0603JR-0727RL; Power Rating: 100 mW; Temperature Coefficient: 100 PPM / C; Tolerance: 5 %; Voltage Rating: 75 V; Supplier 1: Mouser; RoHS: RoHS Compliant; Category: Thick Film Resistors - SMD; Stock 1: 21649; Pricing 1: 1=0.100, 10=0.008, 100=0.003, 1000=0.002, 5000=0.002, 50000=0.001 (USD); Height: 0.45 mm; Length: 1.6 mm; Operating Temperature Range: - 55 C to + 155 C; Package / Case: 0603 (1608 metric); Packaging: Reel; Product: Thick Film Resistors General Purpose; Resistance: 27 Ohms; Series: RC; Termination Style: SMD/SMT; Type: General Purpose Chip Resistor Surface Mount; Width: 0.8 mm; Brand: Yageo; Case Code - in: 0603; Case Code - mm: 1608; Product Category: 0603 SMD Chip Resistors; Standard Pack Qty: 5000; RoHS - Mouser: Y; Minimum Order Quantity: 1; Reeling: True; ComponentLink1URL: http://www.mouser.com/ds/2/447/RC0603-272842.pdf; ComponentLink1Description: http://www.mouser.com/ds/2/447/RC0603-272842.pdf; Supplier Part Number 1: 603-RC0603JR-0727RL
footprint R-0603(1608)-R (Resistor 0603(1608) Reflow)
pins: 1, 2

## R-47K-62.5 mW-0402(1005)
designator R?, comment 47K
RES 47KOHM 62.5 mW 0402(1005) SMD; Manufacturer: Yageo; Manufacturer Part Number: RC0402FR-0775RL; Power (Watts): 62.5 mW; RoHS: RoHS Compliant; Category: Resistors; Resistance: 47K; Composition: MLCC; Package / Case: 0402 (1005 Metric); Supplier Device Package: 0603; Size / Dimension: 0.063" L x 0.031" W (1.60mm x 0.80mm); Height: 0.022" (0.55mm); Number of Terminations: 2
footprint R-0402(1005)-R (Resistor 0402(1005)-Reflow)
pins: 1, 2

## R-60.4-100mW-0805
designator R?, comment 60.4 Ohms
RES 60.4 OHM 100 mW  SMD; Manufacturer: Yageo; Manufacturer Part Number: RC0603FR-0760R4L; Power Rating: 100 mW; Temperature Coefficient: 100 PPM / C; Tolerance: 1 %; Voltage Rating: 75 V; Supplier 1: Mouser; RoHS: RoHS Compliant; Category: Thick Film Resistors - SMD; Stock 1: 5823; Pricing 1: 1=0.100, 10=0.010, 100=0.003, 1000=0.002, 5000=0.002, 10000=0.001 (USD); Height: 0.45 mm; Length: 1.6 mm; Operating Temperature Range: - 55 C to + 155 C; Package / Case: 0603 (1608 metric); Packaging: Reel; Product: Thick Film Resistors General Purpose; Resistance: 60.4 Ohms; Series: RC; Termination Style: SMD/SMT; Type: General Purpose Chip Resistor Surface Mount; Width: 0.8 mm; Brand: Yageo; Case Code - in: 0603; Case Code - mm: 1608; RoHS - Mouser: Y; Minimum Order Quantity: 1; Reeling: True; ComponentLink1URL: http://www.mouser.com/ds/2/447/RC0603-272842.pdf; ComponentLink1Description: http://www.mouser.com/ds/2/447/RC0603-272842.pdf; Supplier Part Number 1: 603-RC0603FR-0760R4L
footprint R-0603(1608)-R (Resistor 0603(1608) Reflow)
pins: 1, 2

## R-75-62.5 mW-0805(2012)
designator R?, comment 75 Ohms
RES 75OHM 125 mW 0805(2012) SMD; Manufacturer: Yageo; Manufacturer Part Number: RC0805FR-0775RL; Power Rating: 125 mW (1/8 W); Temperature Coefficient: 100 PPM / C; Tolerance: 1 %; Voltage Rating: 150 V; Supplier 1: Mouser; RoHS: RoHS Compliant; Category: Thick Film Resistors - SMD; Stock 1: 64794; Pricing 1: 1=0.100, 10=0.016, 100=0.006, 1000=0.004, 5000=0.003, 25000=0.002 (USD); Features: RC0805 series chip resistors with lead-free terminations; Height: 0.5 mm; Length: 2 mm; Operating Temperature Range: - 55 C to + 155 C; Package / Case: 0805 (2012 metric); Packaging: Reel; Product: Thick Film Resistors General Purpose; Resistance: 75 Ohms; Series: RC; Termination Style: SMD/SMT; Type: General Purpose Chip Resistor Surface Mount; Width: 1.25 mm; Brand: Yageo; Case Code - in: 0805; Case Code - mm: 2012; Standard Pack Qty: 5000; RoHS - Mouser: Y; Minimum Order Quantity: 1; Reeling: True; ComponentLink1URL: http://www.mouser.com/ds/2/447/Yageo_08112016_RC0805-968729.pdf; ComponentLink1Description: http://www.mouser.com/ds/2/447/Yageo_08112016_RC0805-968729.pdf; Supplier Part Number 1: 603-RC0805FR-0775RL
footprint R-0805(2012)-R (Resistor 0805(2012) Reflow)
pins: 1, 2

## R-100-62.5 mW-0402(1005)
designator R?, comment 100 Ohms
RES 100 OHM 62.5 mW 0402(1005) SMD; Manufacturer: Yageo; Manufacturer Part Number: RC0402FR-07100RL; Power Rating: 62.5 mW (1/16 W); Temperature Coefficient: 100 PPM / C; Tolerance: 1 %; Voltage Rating: 50 V; Supplier 1: Mouser; RoHS: RoHS Compliant; Category: Thick Film Resistors - SMD; Stock 1: 353272; Pricing 1: 1=0.100, 10=0.010, 100=0.003, 1000=0.002, 10000=0.001 (USD); Height: 0.35 mm; Length: 1 mm; Operating Temperature Range: - 55 C to + 155 C; Package / Case: 0402 (1005 metric); Packaging: Reel; Product: Thick Film Resistors General Purpose; Resistance: 100 Ohms; Series: RC; Termination Style: SMD/SMT; Type: General Purpose Chip Resistor Surface Mount; Width: 0.5 mm; Brand: Yageo; Case Code - in: 0402; Case Code - mm: 1005; Product Category: 0402 SMD Chip Resistors; Standard Pack Qty: 10000; RoHS - Mouser: Y; Minimum Order Quantity: 1; Reeling: True; ComponentLink1URL: http://www.mouser.com/ds/2/447/PYu-RC0402_51_RoHS_L_6_r-8721.pdf; ComponentLink1Description: http://www.mouser.com/ds/2/447/PYu-RC0402_51_RoHS_L_6_r-8721.pdf; Supplier Part Number 1: 603-RC0402FR-07100RL
footprint R-0402(1005)-R (Resistor 0402(1005)-Reflow)
pins: 1, 2

## R-220-100 mW-0603(1608)
designator R?, comment 220 Ohms
RES 220 OHM 100 mW 0603(1608) SMD; Manufacturer: Yageo; Manufacturer Part Number: RT0603FRE07220RL; Power Rating: 100 mW; Temperature Coefficient: 50 PPM / C; Tolerance: 1 %; Voltage Rating: 75 V; Supplier 1: Mouser; RoHS: RoHS Compliant By Exemption; Category: Thin Film Resistors - SMD; Stock 1: 6189; Pricing 1: 1=0.190, 10=0.046, 100=0.015, 1000=0.011, 5000=0.007, 25000=0.006, 50000=0.005 (USD); Height: 0.45 mm; Length: 1.6 mm; Operating Temperature Range: - 55 C to + 125 C; Package / Case: 0603 (1608 metric); Packaging: Reel; Product: Thin Film Resistors SMD; Resistance: 220 Ohms; Series: RT; Termination Style: SMD/SMT; Type: High Precision, High Stability; Width: 0.8 mm; Brand: Yageo; Case Code - in: 0603; Case Code - mm: 1608; RoHS - Mouser: E; Minimum Order Quantity: 1; Reeling: True; ComponentLink1URL: http://www.mouser.com/ds/2/447/PYu-RT_1-to-0.05_RoHS_L_6-772266.pdf; ComponentLink1Description: http://www.mouser.com/ds/2/447/PYu-RT_1-to-0.05_RoHS_L_6-772266.pdf; Supplier Part Number 1: 603-RT0603FRE07220RL
footprint R-0603(1608)-R (Resistor 0603(1608) Reflow)
pins: 1, 2

## R-330-62.5 mW-0402(1005)
designator R?, comment 330
RES 330 OHM 62.5 mW 0402(1005) SMD; Manufacturer: Yageo; Manufacturer Part Number: RC0402FR-0775RL; Power (Watts): 62.5 mW; RoHS: RoHS Compliant; Category: Resistors; Resistance: 330; Composition: MLCC; Package / Case: 0402 (1005 Metric); Supplier Device Package: 0603; Size / Dimension: 0.063" L x 0.031" W (1.60mm x 0.80mm); Height: 0.022" (0.55mm); Number of Terminations: 2
footprint R-0402(1005)-R (Resistor 0402(1005)-Reflow)
pins: 1, 2

## R-470-62.5 mW-0402(1005)
designator R?, comment 470
RES 470OHM 62.5 mW 0402(1005) SMD; Manufacturer: Yageo; Manufacturer Part Number: RC0402FR-0775RL; Power (Watts): 62.5 mW; RoHS: RoHS Compliant; Category: Resistors; Resistance: 470; Composition: MLCC; Package / Case: 0402 (1005 Metric); Supplier Device Package: 0603; Size / Dimension: 0.063" L x 0.031" W (1.60mm x 0.80mm); Height: 0.022" (0.55mm); Number of Terminations: 2
footprint R-0402(1005)-R (Resistor 0402(1005)-Reflow)
pins: 1, 2

## R-750-100mW-0603(1608)
designator R?, comment 750 Ohms
RES 750 OHM 100 mW 0603(1608) SMD; Manufacturer: Yageo; Manufacturer Part Number: RT0603DRD07750RL; Power Rating: 100 mW; Temperature Coefficient: 25 PPM / C; Tolerance: 0.5 %; Voltage Rating: 75 V; Supplier 1: Mouser; RoHS: RoHS Compliant; Category: Thin Film Resistors - SMD; Stock 1: 4747; Pricing 1: 1=0.140, 10=0.077, 100=0.027, 1000=0.019, 5000=0.013, 10000=0.012, 25000=0.011, 50000=0.010 (USD); Height: 0.45 mm; Length: 1.6 mm; Operating Temperature Range: - 55 C to + 125 C; Package / Case: 0603 (1608 metric); Packaging: Reel; Product: Thin Film Resistors SMD; Resistance: 750 Ohms; Series: RT; Termination Style: SMD/SMT; Type: High Precision, High Stability; Width: 0.8 mm; Brand: Yageo; Case Code - in: 0603; Case Code - mm: 1608; RoHS - Mouser: Y; Minimum Order Quantity: 1; Reeling: True; ComponentLink1URL: http://www.mouser.com/ds/2/447/PYu-RT_1-to-0.05_RoHS_L_6-772266.pdf; ComponentLink1Description: http://www.mouser.com/ds/2/447/PYu-RT_1-to-0.05_RoHS_L_6-772266.pdf; Supplier Part Number 1: 603-RT0603DRD07750RL
footprint R-0603(1608)-R (Resistor 0603(1608) Reflow)
pins: 1, 2

## R-0805(2012)
designator R?
___ OHM ___ mW 0805(2012) SMD
footprint R-0805(2012)-R (Resistor 0805(2012) Reflow)
pins: 1, 2

## R-820-100mW-0603(1608)
designator R?, comment 820 Ohms
RES 820 OHM 100 mW 0603(1608) SMD; Manufacturer: Yageo; Manufacturer Part Number: RT0603DRD07820RL; Power Rating: 100 mW; Temperature Coefficient: 25 PPM / C; Tolerance: 0.5 %; Voltage Rating: 75 V; Supplier 1: Mouser; RoHS: RoHS Compliant; Category: Thin Film Resistors - SMD; Stock 1: 5000; Pricing 1: 1=0.140, 10=0.077, 100=0.027, 1000=0.019, 5000=0.013, 10000=0.012, 25000=0.011, 50000=0.010 (USD); Height: 0.45 mm; Length: 1.6 mm; Operating Temperature Range: - 55 C to + 125 C; Package / Case: 0603 (1608 metric); Packaging: Reel; Product: Thin Film Resistors SMD; Resistance: 820 Ohms; Series: RT; Termination Style: SMD/SMT; Type: High Precision, High Stability; Width: 0.8 mm; Brand: Yageo; Case Code - in: 0603; Case Code - mm: 1608; RoHS - Mouser: Y; Minimum Order Quantity: 1; Reeling: True; ComponentLink1URL: http://www.mouser.com/ds/2/447/PYu-RT_1-to-0.05_RoHS_L_6-772266.pdf; ComponentLink1Description: http://www.mouser.com/ds/2/447/PYu-RT_1-to-0.05_RoHS_L_6-772266.pdf; Supplier Part Number 1: 603-RT0603DRD07820RL
footprint R-0603(1608)-R (Resistor 0603(1608) Reflow)
pins: 1, 2

## Stand-off
designator J?  (value not drawn)
footprint 6-32 Threaded Standoff (Keystone Threaded Standoff 534-2210)